# Altium footprint library SM04BSRSSTB.PcbLib: 1 footprints
Each footprint in its own frame and in the unit in brackets; x right, y up, seen from the top. Pads: shape width x height; smd on the part's side, far side on the other; paste and mask are expansions set on the pad; w line width, h text height; cw(c..) or ccw(c..) is an arc to the next point about the centre after c.
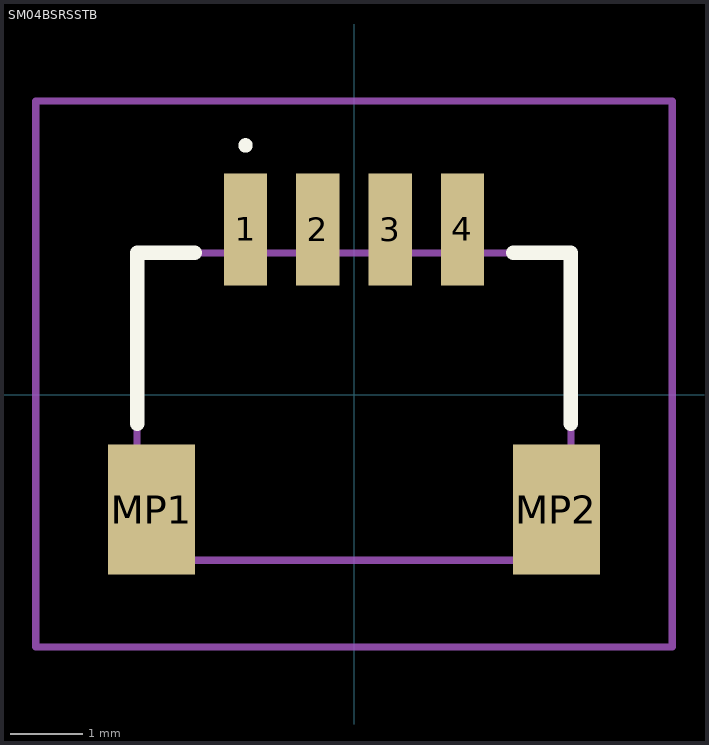
[diagram p0: the footprint, top view; thin cyan lines are the x and y axes]

## SM04BSRSSTB [mm]
pads (6):
  rect 0.6x1.55 smd: 1(-1.5,2.287) 2(-0.5,2.287) 3(0.5,2.287) 4(1.5,2.287)
  rect 1.2x1.8 smd: MP1(-2.8,-1.588) MP2(2.8,-1.588)
Top Overlay:
  lines w0.1: -1.5,3.4 cw(c-1.5,3.45) -1.5,3.5 cw(c-1.5,3.45) -1.5,3.4
  lines w0.2: -3,-0.4 -3,1.963 -2.2,1.963 ; 2.2,1.963 3,1.963 3,-0.4
Mechanical 15:
  lines w0.1: -3,-2.287 -3,1.963 3,1.963 3,-2.287 -3,-2.287
Mechanical 20:
  lines w0.1: -4.4,-3.487 -4.4,4.063 4.4,4.063 4.4,-3.487 -4.4,-3.487
3D body "SM04B-SRSS-TB--3DModel-STEP-269445.STEP": height 2.91, standoff -0.05, extent -3,-2.371 3,2.579